# Altium footprint library IDC-2x16_90_2mm.PcbLib: 1 footprints
Each footprint in its own frame and in the unit in brackets; x right, y up, seen from the top. Pads: shape width x height; smd on the part's side, far side on the other; paste and mask are expansions set on the pad; w line width, h text height; cw(c..) or ccw(c..) is an arc to the next point about the centre after c.
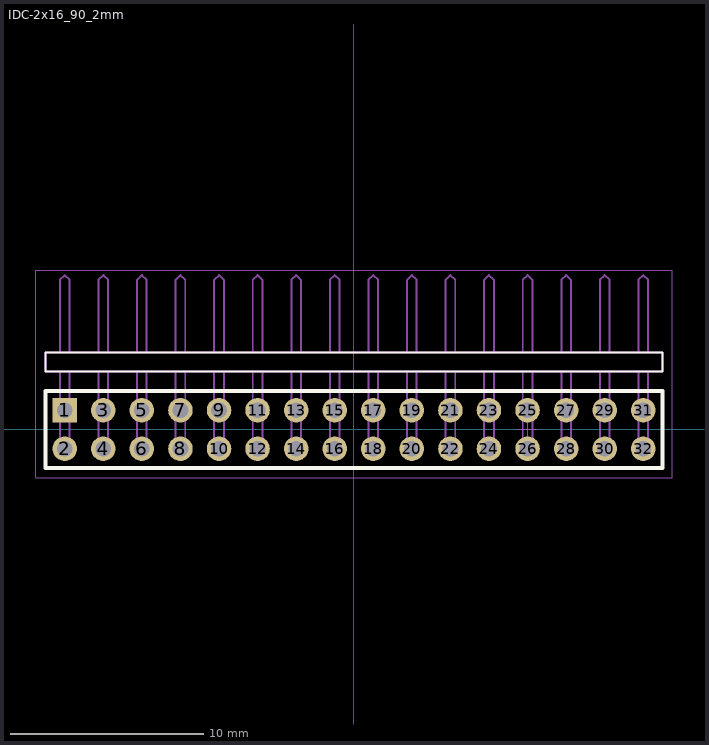
[diagram p0: the footprint, top view; thin cyan lines are the x and y axes]

## IDC-2x16_90_2mm [mm]
height 4
pads (32):
  rect 1.27x1.27 hole 0.813: 1(-15,1)
  round 1.27 hole 0.813: 2(-15,-1) 3(-13,1) 4(-13,-1) 5(-11,1) 6(-11,-1) 7(-9,1) 8(-9,-1) 9(-7,1) 10(-7,-1) 11(-5,1) 12(-5,-1) 13(-3,1) 14(-3,-1) 15(-1,1) 16(-1,-1) 17(1,1) 18(1,-1) 19(3,1) 20(3,-1) 21(5,1) 22(5,-1) 23(7,1) 24(7,-1) 25(9,1) 26(9,-1) 27(11,1) 28(11,-1) 29(13,1) 30(13,-1) 31(15,1) 32(15,-1)
Top Overlay:
  lines w0.1: -16,3 -16,4 16,4 16,3 -16,3
  lines w0.203: -16,-2 16,-2 16,2 -16,2 -16,-2
Mechanical 13:
  drawing of 188 lines, arcs and shapes, not listed
Mechanical 15:
  lines w0.05: 8.5,0 9.5,0 ; 9,-0.5 9,0.5
3D body: height 6, standoff 0, extent -15.999,-1.999 16,1.999